# Altium footprint library WREL_AD10_Ben.PcbLib: 135 footprints (part 5 of 9)
Each footprint in its own frame and in the unit in brackets; x right, y up, seen from the top. Pads: shape width x height; smd on the part's side, far side on the other; paste and mask are expansions set on the pad; w line width, h text height; cw(c..) or ccw(c..) is an arc to the next point about the centre after c.
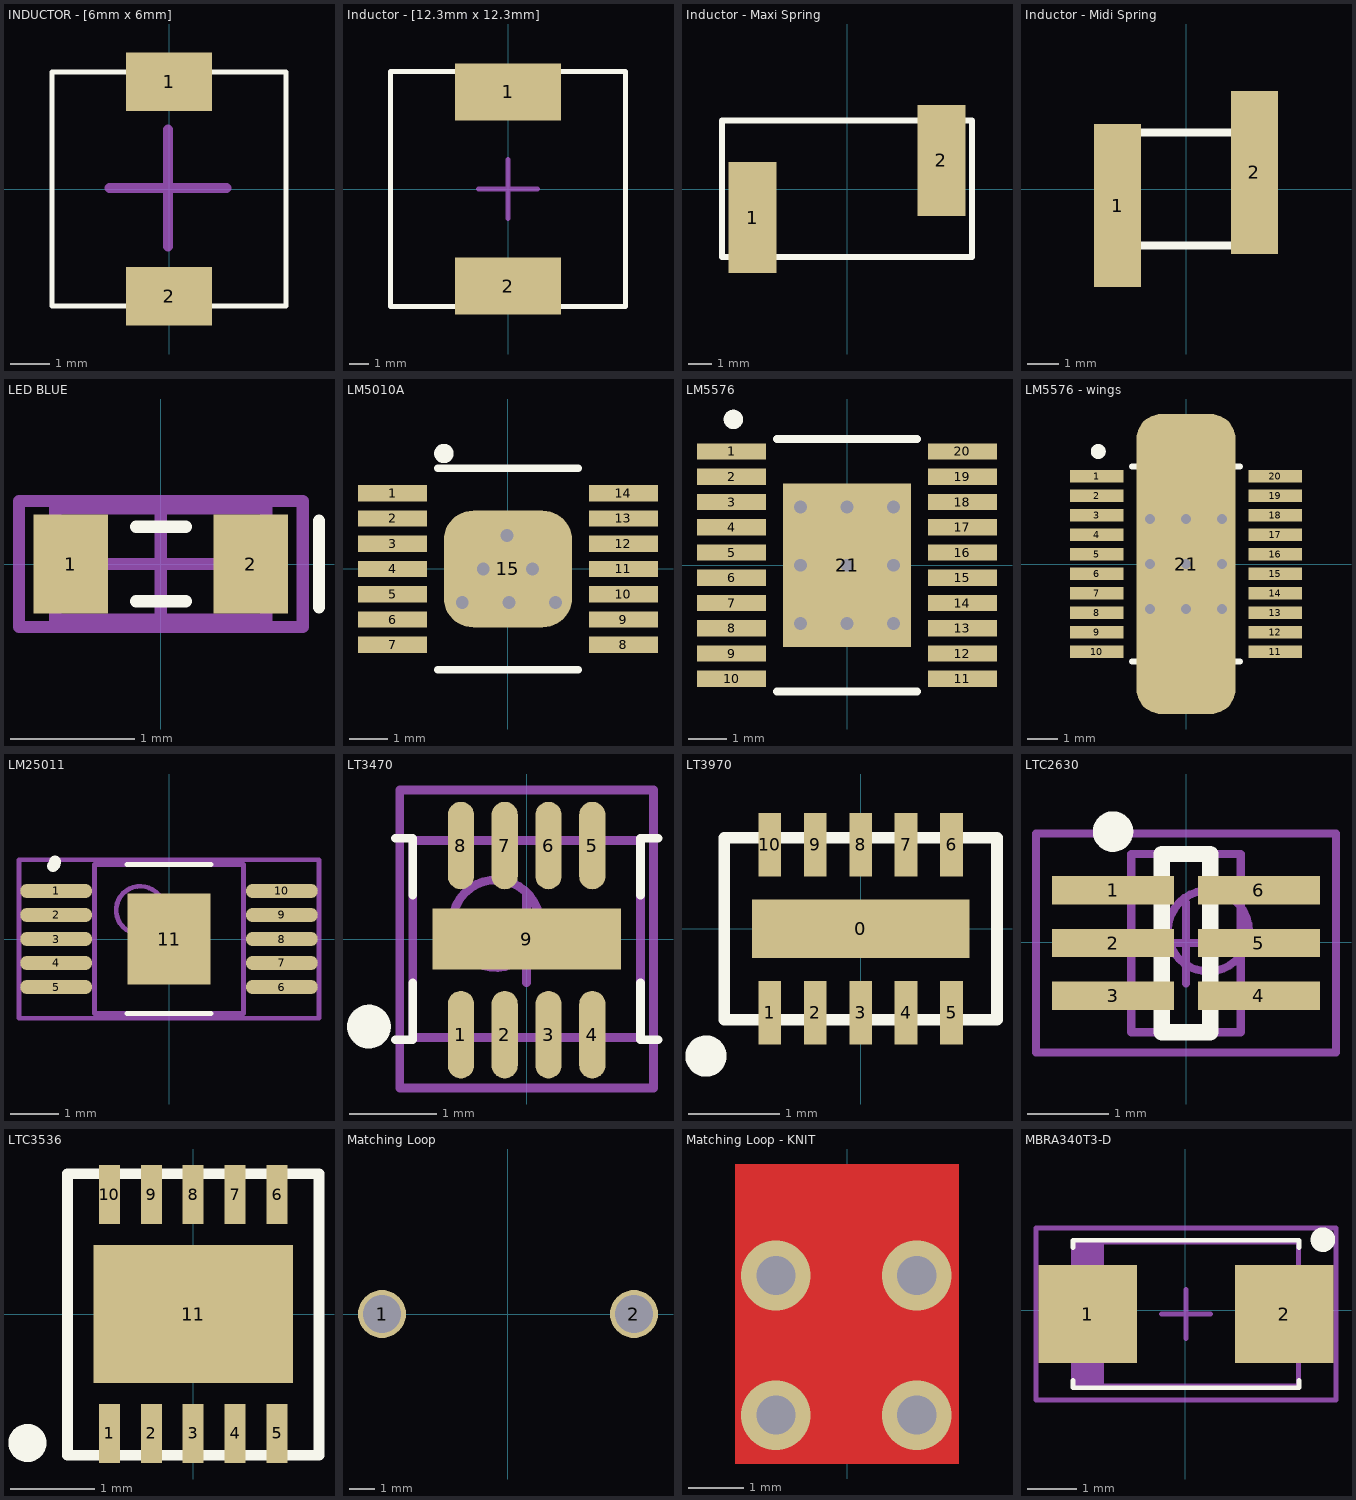
[diagram p4: the footprints below, top view; thin cyan lines are the x and y axes]

## INDUCTOR - [6mm x 6mm] [mm] "TDK SLF6028T Surface mount power inductor (6mm x 6mm]"
height 2.8
pads (2):
  rect 2.2x1.5 smd: 1(0,2.75) 2(0,-2.75)
Top Overlay:
  lines w0.127: -3,-3 3,-3 3,3 -3,3 -3,-3
Mechanical 15:
  lines w0.254: -1.525,0.025 1.475,0.025 ; -0.025,-1.475 -0.025,1.525
3D body: height 2.8, standoff 0, extent -2.997,-3.023 2.997,2.972

## Inductor - [12.3mm x 12.3mm] [mm] "Surface mount power inductor (12.3 x 12.3)"
height 10
pads (2):
  rect 5.4x2.9 smd: 1(0,4.95) 2(0,-4.95)
Top Overlay:
  lines w0.254: -6,-6 6,-6 6,6 -6,6 -6,-6
Mechanical 15:
  lines w0.254: -1.5,0 1.5,0 ; 0,-1.5 0,1.5
3D body: height 10, standoff 0, extent -6,-6 6,6

## Inductor - Maxi Spring [mm] "Coil Craft - Maxi Spring - Air Core Inductors"
height 5.969
pads (2):
  rect 2.04x4.7 smd: 1(-3.99,-1.21) 2(3.99,1.21)
Top Overlay:
  lines w0.254: -5.275,-2.87 5.275,-2.87 5.275,2.9 -5.275,2.9 -5.275,-2.87

## Inductor - Midi Spring [mm] "Coil Craft - Midi Spring - Air Core Inductors"
height 4.2
pads (2):
  rect 1.48x5.16 smd: 1(-2.16,-0.524) 2(2.16,0.524)
Top Overlay:
  lines w0.254: -2.46,-1.78 2.46,-1.78 2.46,1.78 -2.46,1.78 -2.46,-1.78
3D body: height 3.81, standoff 0, extent -2.475,-2.603 2.475,2.604

## LED BLUE [mm]
pads (2):
  rect 0.6x0.8 smd: 1(-0.725,0) 2(0.725,0)
Top Overlay:
  lines w0.1: -0.2,-0.3 0.2,-0.3 ; -0.2,0.3 0.2,0.3 ; 1.275,-0.35 1.275,0.35
Mechanical 13:
  lines w0.1: -0.85,-0.45 -0.85,0.45 0.85,0.45 0.85,-0.45 -0.85,-0.45
Mechanical 15:
  lines w0.1: -0.45,0 0.45,0 ; 0,-0.45 0,0.45 ; -1.143,-0.508 -1.143,0.508 1.143,0.508 1.143,-0.508 -1.143,-0.508
3D body: height 0.6, standoff 0, extent -0.85,-0.45 0.85,0.45

## LM5010A [mm] "75V 1A Step-Down Switching Regulator"
height 1.1
pads (15):
  rect 1.78x0.42 smd: 1(-2.968,1.95) 2(-2.968,1.3) 3(-2.968,0.65) 4(-2.968,0) 5(-2.968,-0.65) 6(-2.968,-1.3) 7(-2.968,-1.95) 8(2.972,-1.95) 9(2.972,-1.3) 10(2.972,-0.65) 11(2.972,0) 12(2.972,0.65) 13(2.972,1.3) 14(2.972,1.95)
  rrect50% 3.3x3 smd: 15(0,0)
via 0.635,0 diameter 0.66 hole 0.33
via -0.025,0.864 diameter 0.66 hole 0.33
via -0.635,0 diameter 0.66 hole 0.33
via 1.225,-0.864 diameter 0.66 hole 0.33
via 0.025,-0.864 diameter 0.66 hole 0.33
via -1.175,-0.864 diameter 0.66 hole 0.33
Top Overlay:
  circle w0.25: c-1.649,2.972 r0.125
  lines w0.2: -1.797,-2.591 1.803,-2.591 ; -1.797,2.591 1.803,2.591
Mechanical 15:
  lines w0.1: -0.5,0 0.5,0 ; 0,-0.5 0,0.5

## LM5576 [mm] "75V 3A Step-Down Switching Regualtor"
height 1.1
pads (21):
  rect 1.78x0.42 smd: 1(-2.97,2.925) 2(-2.97,2.275) 3(-2.97,1.625) 4(-2.97,0.975) 5(-2.97,0.325) 6(-2.97,-0.325) 7(-2.97,-0.975) 8(-2.97,-1.625) 9(-2.97,-2.275) 10(-2.97,-2.925) 11(2.97,-2.925) 12(2.97,-2.275) 13(2.97,-1.625) 14(2.97,-0.975) 15(2.97,-0.325) 16(2.97,0.325) 17(2.97,0.975) 18(2.97,1.625) 19(2.97,2.275) 20(2.97,2.925)
  rect 3.3x4.2 smd: 21(0,0)
via -1.2,1.5 diameter 0.66 hole 0.33
via 0,1.5 diameter 0.66 hole 0.33
via 1.2,1.5 diameter 0.66 hole 0.33
via -1.2,0 diameter 0.66 hole 0.33
via 0,0 diameter 0.66 hole 0.33
via 1.2,0 diameter 0.66 hole 0.33
via -1.2,-1.5 diameter 0.66 hole 0.33
via 0,-1.5 diameter 0.66 hole 0.33
via 1.2,-1.5 diameter 0.66 hole 0.33
Top Overlay:
  circle w0.25: c-2.925,3.75 r0.125
  lines w0.2: -1.8,-3.25 1.8,-3.25 ; -1.8,3.25 1.8,3.25
Mechanical 15:
  lines w0.1: -0.5,0 0.5,0 ; 0,-0.5 0,0.5
3D body: height 1.1, standoff 0, extent -2.2,-3.25 2.2,3.25

## LM5576 - wings [mm] "75V 3A Step-Down Switching Regualtor"
height 1.1
pads (21):
  rect 1.78x0.42 smd: 1(-2.97,2.925) 2(-2.97,2.275) 3(-2.97,1.625) 4(-2.97,0.975) 5(-2.97,0.325) 6(-2.97,-0.325) 7(-2.97,-0.975) 8(-2.97,-1.625) 9(-2.97,-2.275) 10(-2.97,-2.925) 11(2.97,-2.925) 12(2.97,-2.275) 13(2.97,-1.625) 14(2.97,-0.975) 15(2.97,-0.325) 16(2.97,0.325) 17(2.97,0.975) 18(2.97,1.625) 19(2.97,2.275) 20(2.97,2.925)
  rrect50% 3.3x10 smd: 21(0,0)
via -1.2,1.5 diameter 0.66 hole 0.33
via 0,1.5 diameter 0.66 hole 0.33
via 1.2,1.5 diameter 0.66 hole 0.33
via -1.2,0 diameter 0.66 hole 0.33
via 0,0 diameter 0.66 hole 0.33
via 1.2,0 diameter 0.66 hole 0.33
via -1.2,-1.5 diameter 0.66 hole 0.33
via 0,-1.5 diameter 0.66 hole 0.33
via 1.2,-1.5 diameter 0.66 hole 0.33
Top Overlay:
  circle w0.25: c-2.925,3.75 r0.125
  lines w0.2: -1.8,-3.25 1.8,-3.25 ; -1.8,3.25 1.8,3.25
Mechanical 15:
  lines w0.1: -0.5,0 0.5,0 ; 0,-0.5 0,0.5
3D body: height 1.1, standoff 0, extent -2.2,-3.25 2.2,3.25

## LM25011 [mm] "IC REG BUCK ADJ 2A 10MSOP"
pads (11):
  oval 1.5x0.3 smd: 1(-2.35,1) 2(-2.35,0.5) 3(-2.35,0) 4(-2.35,-0.5) 5(-2.35,-1) 6(2.35,-1) 7(2.35,-0.5) 8(2.35,0) 9(2.35,0.5) 10(2.35,1)
  rect 1.73x1.9 smd: 11(0,0)
Top Overlay:
  lines w0.1: -0.875,-1.55 0.875,-1.55 ; -0.875,1.55 0.875,1.55
  lines w0.25: -2.413,1.524 ccw(c-2.501,1.613) -2.376,1.613
Mechanical 13:
  circle w0.1: c-0.6,0.6 r0.5
  lines w0.1: -1.55,-1.55 1.55,-1.55 1.55,1.55 -1.55,1.55 -1.55,-1.55
Mechanical 15:
  lines w0.1: -0.5,0 0.5,0 ; 0,-0.5 0,0.5 ; -3.125,-1.651 3.125,-1.651 3.125,1.651 -3.125,1.651 -3.125,-1.651
3D body: height 1.09, standoff 0.06, extent -1.55,-1.55 1.55,1.55

## LT3470 [mm] "LT3470"
height 0.8
pads (9):
  oval 0.3x1 smd: 1(-0.75,-1.092) 2(-0.25,-1.092) 3(0.25,-1.092) 4(0.75,-1.092) 5(0.75,1.067) 6(0.25,1.067) 7(-0.25,1.067) 8(-0.75,1.067)
  rect 2.15x0.7 smd: 9(0,0)
Top Overlay:
  circle w0.25: c-1.8,-1 r0.125
  lines w0.1: -1.5,-1.15 -1.3,-1.15 -1.3,-0.5 ; -1.5,1.15 -1.3,1.15 -1.3,0.5 ; 1.3,-0.5 1.3,-1.15 1.5,-1.15 ; 1.3,0.5 1.3,1.15 1.5,1.15
Mechanical 13:
  circle w0.1: c-0.35,0.175 r0.5
  lines w0.1: -1.3,-1.125 -1.3,1.125 1.3,1.125 1.3,-1.125 -1.3,-1.125
Mechanical 15:
  lines w0.1: -0.5,0 0.5,0 ; 0,-0.5 0,0.5 ; -1.448,-1.7 -1.448,1.7 1.448,1.7 1.448,-1.7 -1.448,-1.7
3D body: height 0.8, standoff 0.03, extent -1.3,-1.125 1.3,1.125

## LT3970 [mm] "DFN-10, (3mmx2mm)"
height 0.75
pads (11):
  rect 2.39x0.64 smd: 0(0,0)
  rect 0.25x0.7 smd: 1(-1,-0.925) 2(-0.5,-0.925) 3(0,-0.925) 4(0.5,-0.925) 5(1,-0.925) 6(1,0.925) 7(0.5,0.925) 8(0,0.925) 9(-0.5,0.925) 10(-1,0.925)
Top Overlay:
  circle w0.254: c-1.7,-1.4 r0.1
  lines w0.127: -1.5,-1 1.5,-1 1.5,1 -1.5,1 -1.5,-1
3D body: height 0.75, standoff 0, extent -1.5,-1 1.5,1

## LTC2630 [mm] "DAQ"
pads (6):
  rect 1.5x0.35 smd: 1(-0.9,0.637) 2(-0.9,-0.013) 3(-0.9,-0.663) 4(0.9,-0.663) 5(0.9,-0.013) 6(0.9,0.637)
Top Overlay:
  circle w0.25: c-0.9,1.362 r0.125
  lines w0.2: -0.3,-1.113 0.3,-1.113 0.3,1.087 -0.3,1.087 -0.3,-1.113
Mechanical 13:
  circle w0.1: c0.275,0.137 r0.5
  lines w0.1: -0.675,-1.113 0.675,-1.113 0.675,1.087 -0.675,1.087 -0.675,-1.113
Mechanical 15:
  lines w0.1: -0.5,-0.013 0.5,-0.013 ; 0,-0.513 0,0.487 ; -1.85,-1.363 1.85,-1.363 1.85,1.337 -1.85,1.337 -1.85,-1.363
3D body: height 1, standoff 0.15, extent -0.675,-1.113 0.675,1.087

## LTC3536 [mm] "DFN-10, (3mmx3mm)"
height 0.75
pads (11):
  rect 0.25x0.7 smd: 1(-1,-1.425) 2(-0.5,-1.425) 3(0,-1.425) 4(0.5,-1.425) 5(1,-1.425) 6(1,1.425) 7(0.5,1.425) 8(0,1.425) 9(-0.5,1.425) 10(-1,1.425)
  rect 2.38x1.65 smd: 11(0,0)
Top Overlay:
  circle w0.254: c-1.978,-1.538 r0.1
  lines w0.127: -1.5,-1.685 1.5,-1.685 1.5,1.673 -1.5,1.673 -1.5,-1.685
3D body: height 0.03, standoff 0, extent 0.889,-1.803 1.143,-1.092
3D body: height 0.03, standoff 0, extent 0.381,-1.803 0.635,-1.092
3D body: height 0.03, standoff 0, extent -0.127,-1.778 0.127,-1.067
3D body: height 0.03, standoff 0, extent -0.635,-1.778 -0.381,-1.067
3D body: height 0.03, standoff 0, extent -1.143,-1.778 -0.889,-1.067
3D body: height 0.03, standoff 0, extent 0.864,1.067 1.118,1.778
3D body: height 0.03, standoff 0, extent 0.381,1.067 0.635,1.778
3D body: height 0.03, standoff 0, extent -0.127,1.067 0.127,1.778
3D body: height 0.03, standoff 0, extent -0.635,1.067 -0.381,1.778
3D body: height 0.03, standoff 0, extent -1.143,1.067 -0.889,1.778
3D body: height 0.75, standoff 0.03, extent -1.499,-1.511 1.499,1.511

## Matching Loop [mm] "KLC Matching Loop"
pads (2):
  round 1.9 hole 1.5: 1(-4.975,0) 2(5,0)

## Matching Loop - KNIT [mm] "KLC Matching Loop KNIT"
via 1.27,-2.362 diameter 1.27 hole 0.711
via 1.27,-4.902 diameter 1.27 hole 0.711
via -1.295,-2.362 diameter 1.27 hole 0.711
via -1.295,-4.902 diameter 1.27 hole 0.711
Top Layer:
  region: 2.032,-5.791 2.032,-0.33 -2.032,-0.33 -2.032,-5.791
Bottom Layer:
  region: 2.032,-5.791 2.032,-0.33 -2.032,-0.33 -2.032,-5.791
Top Solder:
  region: 2.032,-5.791 2.032,-0.33 -2.032,-0.33 -2.032,-5.791
Bottom Solder:
  region: 2.032,-5.791 2.032,-0.33 -2.032,-0.33 -2.032,-5.791

## MBRA340T3-D [mm]
pads (2):
  rect 2x2 smd: 1(-1.987,-0.076) 2(2.013,-0.076)
Top Overlay:
  circle w0.25: c2.796,1.435 r0.125
  lines w0.1: -2.287,-1.426 -2.287,-1.576 2.313,-1.576 2.313,-1.426 ; -2.287,1.274 -2.287,1.424 2.313,1.424 2.313,1.274
Mechanical 13:
  rectangle: -2.272,-1.536 -1.658,1.384
  lines w0.1: -2.272,-1.536 -2.272,1.384 2.298,1.384 2.298,-1.536 -2.272,-1.536
Mechanical 15:
  lines w0.1: -0.487,-0.076 0.513,-0.076 ; 0.013,-0.576 0.013,0.424 ; -3.037,-1.826 -3.037,1.674 3.063,1.674 3.063,-1.826 -3.037,-1.826
3D body: height 2.2, standoff 0, extent -2.272,-1.536 2.298,1.384